# Altium footprint library custom-case.PcbLib: 30 footprints (part 2 of 2)
Each footprint in its own frame and in the unit in brackets; x right, y up, seen from the top. Pads: shape width x height; smd on the part's side, far side on the other; paste and mask are expansions set on the pad; w line width, h text height; cw(c..) or ccw(c..) is an arc to the next point about the centre after c.
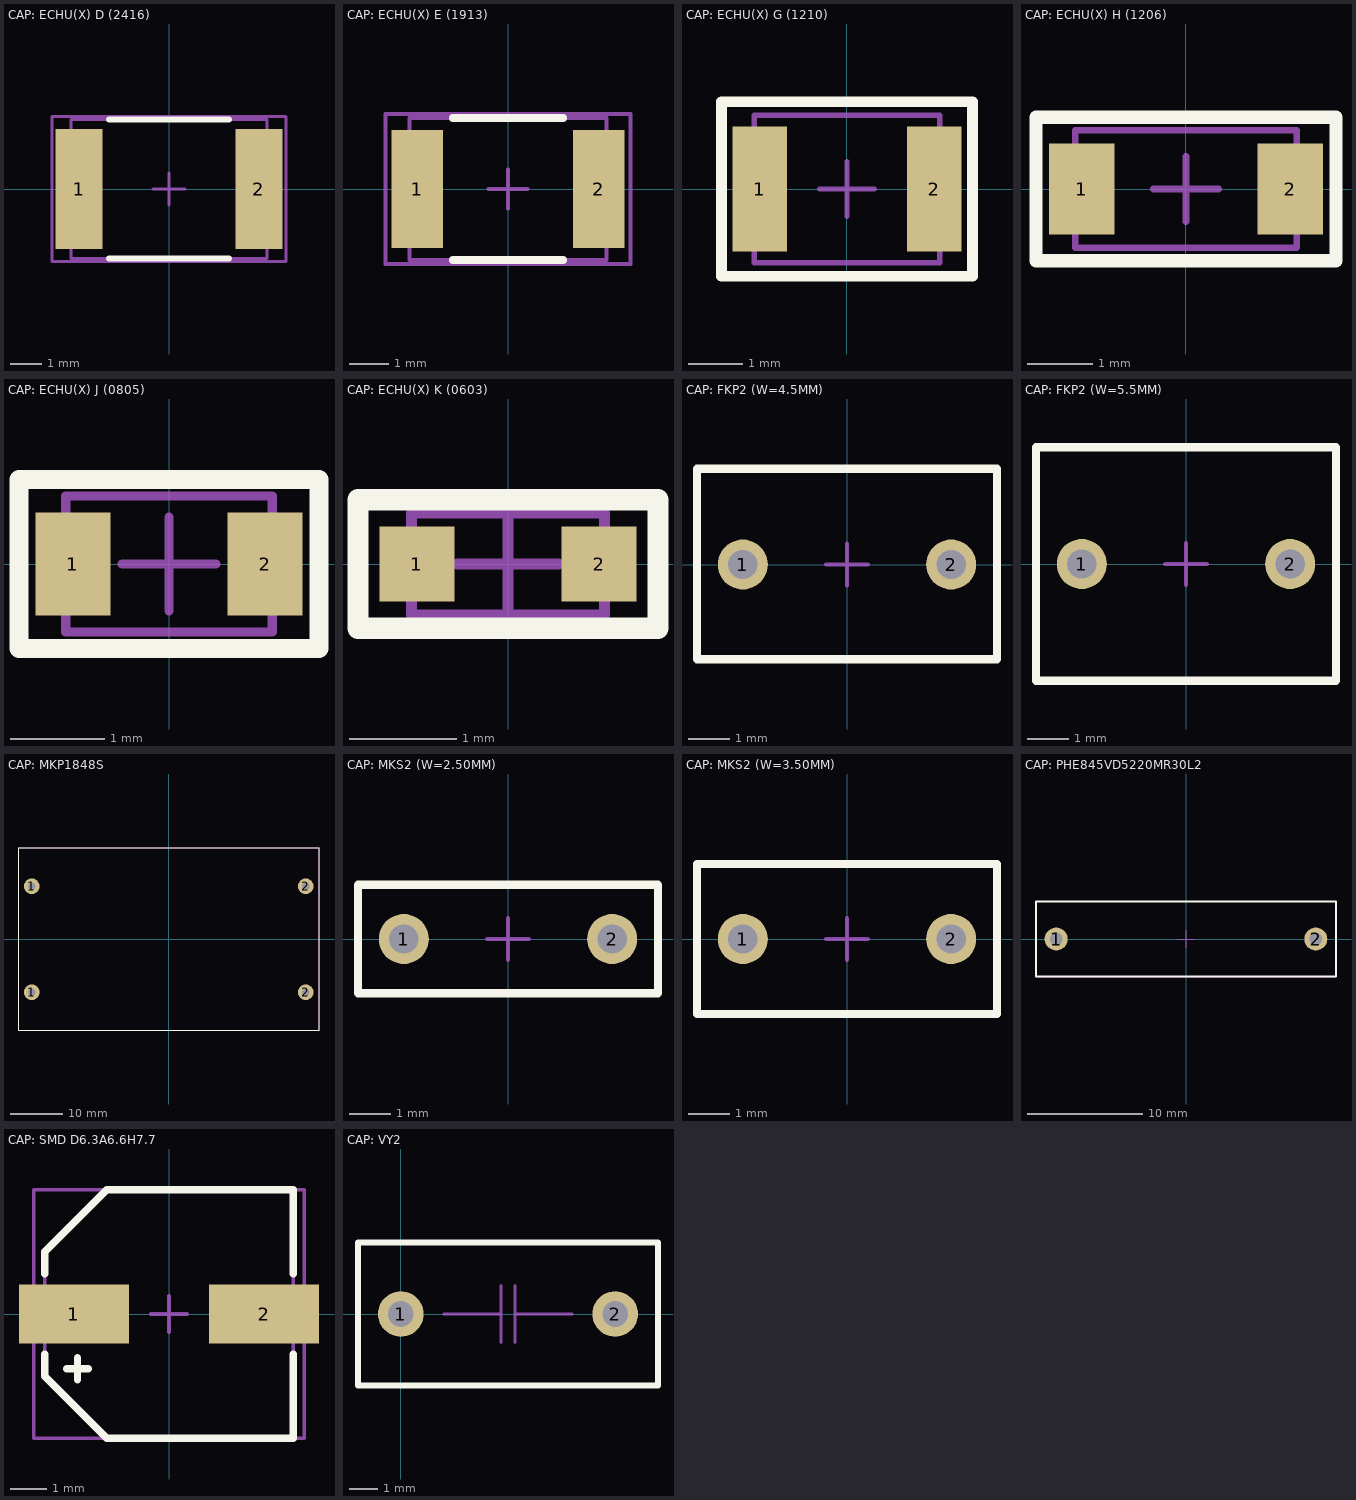
[diagram p1: the footprints below, top view; thin cyan lines are the x and y axes]

## CAP: ECHU(X) D (2416) [mm]
height 2.8
pads (2):
  rect 1.5x3.8 smd: 1(-2.85,0) 2(2.85,0)
Top Overlay:
  lines w0.2: -1.9,-2.2 1.9,-2.2 ; -1.9,2.2 1.9,2.2
Top Assy:
  lines w0.1: -3.1,-2.2 -3.1,2.2 3.1,2.2 3.1,-2.2 -3.1,-2.2
Size Area:
  lines w0.1: -0.5,0 0.5,0 ; 0,-0.5 0,0.5 ; -3.7,-2.3 -3.7,2.3 3.7,2.3 3.7,-2.3 -3.7,-2.3
3D body: height 2.8, standoff 0, extent -2.3,-2.2 2.3,2.2
3D body: height 2.8, standoff 0, extent -3.1,-2.2 -2.3,2.2
3D body: height 2.8, standoff 0, extent 2.3,-2.2 3.1,2.2

## CAP: ECHU(X) E (1913) [mm]
height 2.1
pads (2):
  rect 1.3x3 smd: 1(-2.3,0) 2(2.3,0)
Top Overlay:
  lines w0.2: -1.4,-1.8 1.4,-1.8 ; -1.4,1.8 1.4,1.8
Top Assy:
  lines w0.1: -2.5,-1.8 -2.5,1.8 2.5,1.8 2.5,-1.8 -2.5,-1.8
Size Area:
  lines w0.1: -0.5,0 0.5,0 ; 0,-0.5 0,0.5 ; -3.1,-1.9 -3.1,1.9 3.1,1.9 3.1,-1.9 -3.1,-1.9
3D body: height 2.1, standoff 0, extent -1.7,-1.8 1.7,1.8
3D body: height 2.1, standoff 0, extent -2.5,-1.8 -1.7,1.8
3D body: height 2.1, standoff 0, extent 1.7,-1.8 2.5,1.8

## CAP: ECHU(X) G (1210) [mm]
height 2.1
pads (2):
  rect 1x2.3 smd: 1(-1.6,0) 2(1.6,0)
Top Overlay:
  lines w0.2: -2.3,-1.6 -2.3,1.6 2.3,1.6 2.3,-1.6 -2.3,-1.6
Top Assy:
  lines w0.1: -1.7,-1.35 1.7,-1.35 1.7,1.35 -1.7,1.35 -1.7,-1.35
Size Area:
  lines w0.1: -0.5,0 0.5,0 ; 0,-0.5 0,0.5 ; -2.3,-1.6 2.3,-1.6 2.3,1.6 -2.3,1.6 -2.3,-1.6
3D body: height 2.1, standoff 0, extent 1.05,-1.35 1.7,1.35
3D body: height 2.1, standoff 0, extent -1.7,-1.35 -1.05,1.35
3D body: height 2.1, standoff 0, extent -1.05,-1.35 1.05,1.35

## CAP: ECHU(X) H (1206) [mm]
height 1.5
pads (2):
  rect 1x1.4 smd: 1(-1.6,0) 2(1.6,0)
Top Overlay:
  lines w0.2: -2.3,-1.1 -2.3,1.1 2.3,1.1 2.3,-1.1 -2.3,-1.1
Top Assy:
  lines w0.1: -1.7,-0.9 -1.7,0.9 1.7,0.9 1.7,-0.9 -1.7,-0.9
Size Area:
  lines w0.1: -0.5,0 0.5,0 ; 0,-0.5 0,0.5 ; -2.3,-1.1 -2.3,1.1 2.3,1.1 2.3,-1.1 -2.3,-1.1
3D body: height 1.5, standoff 0, extent -1.05,-0.9 1.05,0.9
3D body: height 1.5, standoff 0, extent -1.7,-0.9 -1.05,0.9
3D body: height 1.5, standoff 0, extent 1.05,-0.9 1.7,0.9

## CAP: ECHU(X) J (0805) [mm]
height 1.1
pads (2):
  rect 0.8x1.1 smd: 1(-1.025,0) 2(1.025,0)
Top Overlay:
  lines w0.2: -1.6,-0.9 -1.6,0.9 1.6,0.9 1.6,-0.9 -1.6,-0.9
Top Assy:
  lines w0.1: -1.1,-0.725 1.1,-0.725 1.1,0.725 -1.1,0.725 -1.1,-0.725
Size Area:
  lines w0.1: -0.5,0 0.5,0 ; 0,-0.5 0,0.5 ; -1.6,-0.9 1.6,-0.9 1.6,0.9 -1.6,0.9 -1.6,-0.9
3D body: height 1.1, standoff 0, extent 0.67,-0.725 1.1,0.725
3D body: height 1.1, standoff 0, extent -1.1,-0.725 -0.67,0.725
3D body: height 1.1, standoff 0, extent -0.67,-0.725 0.67,0.725

## CAP: ECHU(X) K (0603) [mm]
height 0.7
pads (2):
  rect 0.7x0.7 smd: 1(-0.85,0) 2(0.85,0)
Top Overlay:
  lines w0.2: -1.4,-0.6 -1.4,0.6 1.4,0.6 1.4,-0.6 -1.4,-0.6
Top Assy:
  lines w0.1: -0.9,-0.475 0.9,-0.475 0.9,0.475 -0.9,0.475 -0.9,-0.475
Size Area:
  lines w0.1: -0.475,0 0.475,0 ; 0,-0.475 0,0.475 ; -1.4,-0.6 1.4,-0.6 1.4,0.6 -1.4,0.6 -1.4,-0.6
3D body: height 0.7, standoff 0, extent 0.55,-0.475 0.9,0.475
3D body: height 0.7, standoff 0, extent -0.9,-0.475 -0.55,0.475
3D body: height 0.7, standoff 0, extent -0.55,-0.475 0.55,0.475

## CAP: FKP2 (W=4.5MM) [mm]
pads (2):
  round 1.2 hole 0.7: 1(-2.5,0) 2(2.5,0)
Top Overlay:
  lines w0.2: -3.6,-2.275 3.6,-2.275 3.6,2.3 0.5,2.3 -3.6,2.3 -3.6,-2.275
Size Area:
  lines w0.1: -0.5,0 0.5,0 ; 0,-0.5 0,0.5 ; -3.6,-2.275 3.6,-2.275 3.6,2.3 -3.6,2.3 -3.6,-2.275
3D body "FILM_RED_P500L720W450H600PD50.step": height 6, standoff -6.2, extent -3.6,-2.25 3.6,2.25

## CAP: FKP2 (W=5.5MM) [mm]
pads (2):
  round 1.2 hole 0.7: 1(-2.5,0) 2(2.5,0)
Top Overlay:
  lines w0.2: -3.6,-2.8 -3.6,2.8 1,2.8 3.6,2.8 3.6,-2.8 -3.6,-2.8
Size Area:
  lines w0.1: -0.5,0 0.5,0 ; 0,-0.5 0,0.5 ; -3.6,-2.8 3.6,-2.8 3.6,2.8 -3.6,2.8 -3.6,-2.8
3D body "FILM_RED_P500L720W550H700PD50.step": height 7, standoff -6.2, extent -3.6,-2.75 3.6,2.75

## CAP: MKP1848S [mm]
pads (4):
  round 3 hole 1.4: 1(-26.3,-10.2) 1(-26.3,10.1) 2(26.2,-10.2) 2(26.2,10.1)
Top Overlay:
  lines w0.2: -28.75,-17.5 -28.75,17.5 28.75,17.5 28.75,-17.5 -28.75,-17.5
Top Assy:
  lines w0.1: -28.75,-17.5 -28.75,17.5 28.75,17.5 28.75,-17.5 -28.75,-17.5
Size Area:
  lines w0.1: -28.75,-17.5 -28.75,17.5 28.75,17.5 28.75,-17.5 -28.75,-17.5
3D body "mkp18film.STEP": height 18.2, standoff -5.8, extent -28.75,-17.5 28.75,17.5

## CAP: MKS2 (W=2.50MM) [mm]
pads (2):
  round 1.2 hole 0.7: 1(-2.5,0) 2(2.5,0)
Top Overlay:
  lines w0.2: -3.6,-1.3 3.6,-1.3 3.6,1.3 1.5,1.3 -3.6,1.3 -3.6,-1.3
Size Area:
  lines w0.1: -0.5,0 0.5,0 ; 0,-0.5 0,0.5 ; -3.6,-1.3 -3.6,1.3 3.6,1.3 3.6,-1.3 -3.6,-1.3
3D body "FILM_RED_P500L720W250H650PD50.step": height 6.5, standoff -6.2, extent -3.6,-1.25 3.6,1.25

## CAP: MKS2 (W=3.50MM) [mm]
pads (2):
  round 1.2 hole 0.7: 1(-2.5,0) 2(2.5,0)
Top Overlay:
  lines w0.2: -3.6,-1.8 -3.6,1.8 2,1.8 3.6,1.8 3.6,-1.8 2.2,-1.8 -2.8,-1.8 -3.6,-1.8
Size Area:
  lines w0.1: -0.5,0 0.5,0 ; 0,-0.5 0,0.5 ; -3.6,-1.8 3.6,-1.8 3.6,1.8 -3.6,1.8 -3.6,-1.8
3D body "FILM_RED_P500L720W350H850PD50.step": height 8.5, standoff -6.2, extent -3.6,-1.75 3.6,1.75

## CAP: PHE845VD5220MR30L2 [mm]
pads (2):
  round 2 hole 1.1: 1(-11.25,-0.003) 2(11.25,-0.003)
Top Overlay:
  lines w0.2: -13,-3.253 -13,3.253 13,3.253 13,-3.253 -13,-3.253
Top Assy:
  lines w0.1: -13,-3.253 13,-3.253 13,3.253 -13,3.253 -13,-3.253
Size Area:
  lines w0.1: -0.75,-0.003 0.75,-0.003 ; 0,-0.75 0,0.75 ; -13,-3.253 13,-3.253 13,3.253 -13,3.253 -13,-3.253
3D body "���.STEP": height 14.55, standoff -3.95, extent -13,-3.253 13,3.253

## CAP: SMD D6.3A6.6H7.7 [mm]
pads (2):
  rect 3x1.6 smd mask+0.075: 1(-2.6,0) 2(2.6,0)
Top Overlay:
  lines w0.2: -3.4,-1.1 -3.4,-1.7 -1.7,-3.4 3.4,-3.4 3.4,-1.1 ; -3.4,1.1 -3.4,1.7 -1.7,3.4 3.4,3.4 3.4,1.1 ; -2.8,-1.5 -2.2,-1.5 ; -2.5,-1.8 -2.5,-1.2
Top Assy:
  lines w0.1: -2.8,-1.5 -2.2,-1.5 ; -2.5,-1.8 -2.5,-1.7 -2.5,-1.2 ; -3.4,-1.7 -3.4,1.7 -1.7,3.4 3.4,3.4 3.4,-3.4 -1.7,-3.4 -3.4,-1.7
Size Area:
  lines w0.1: -0.5,0 0.5,0 ; 0,-0.5 0,0.5 ; -3.7,-3.4 -3.7,3.4 3.7,3.4 3.7,-3.4 -3.7,-3.4
3D body "User Library-SMD Polymer Aluminum Electrolytic Capacitors C6 39uF 16V.STEP": height 5.9, standoff -0.05, extent -3.65,-3.3 3.65,3.3

## CAP: VY2 [mm]
pads (2):
  round 1.6 hole 0.9: 1(0,0) 2(7.5,0)
Top Overlay:
  lines w0.2: 9,-2.5 -1.5,-2.5 -1.5,2.5 9,2.5 9,-2.5 ; 9,-2.5 9,-2.5
Top Assy:
  lines w0.1: 1.5,0 3.5,0 3.5,1 3.5,-1 ; 4,-1 4,1 4,0 6,0 ; -1.5,-2.5 9,-2.5 9,2.5 -1.5,2.5 -1.5,-2.5
Size Area:
  lines w0.1: -1.5,-2.5 -1.5,-2.5 ; -1.5,-2.5 9,-2.5 9,2.5 -1.5,2.5 -1.5,-2.5
3D body "777.STEP": height 14.75, standoff -1.75, extent -1.5,-2.5 9,2.5